# EAGLE library part L6491 (library ruark2)
Half-Bridge Gate Driver IC Non-Inverting 14-SO 4A
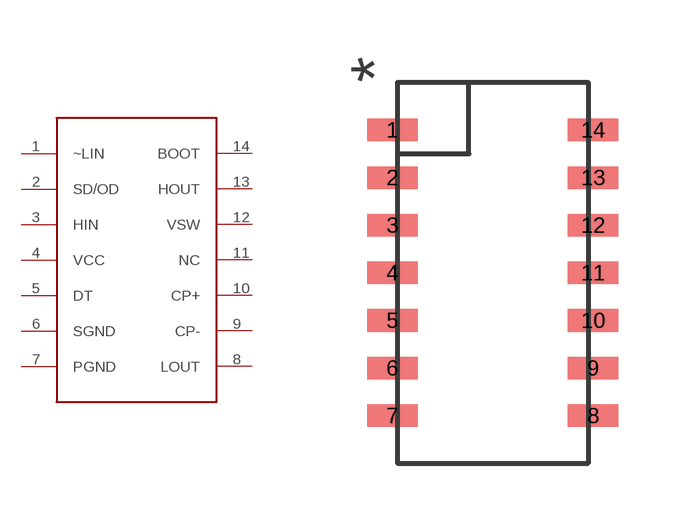
[diagram p11: symbol with the pads of SO14; footprint SO14]

Designator prefix U

## L6491 (PARTNO: 497-15443-5-ND)  [SO14]
1  ~LIN
2  SD/OD
3  HIN
4  VCC
5  DT
6  SGND
7  PGND
8  LOUT
9  CP-
10  CP+
11  NC
12  VSW
13  HOUT
14  BOOT

## Footprint SO14 (pad centres in mm)
smd 1.35 x 0.6: 1 -2.675,3.81; 2 -2.675,2.54; 3 -2.675,1.27; 4 -2.675,0; 5 -2.675,-1.27; 6 -2.675,-2.54; 7 -2.675,-3.81; 8 2.675,-3.81; 9 2.675,-2.54; 10 2.675,-1.27; 11 2.675,0; 12 2.675,1.27; 13 2.675,2.54; 14 2.675,3.81